# Altium footprint library Research.PcbLib: 103 footprints (part 5 of 7)
Each footprint in its own frame and in the unit in brackets; x right, y up, seen from the top. Pads: shape width x height; smd on the part's side, far side on the other; paste and mask are expansions set on the pad; w line width, h text height; cw(c..) or ccw(c..) is an arc to the next point about the centre after c.
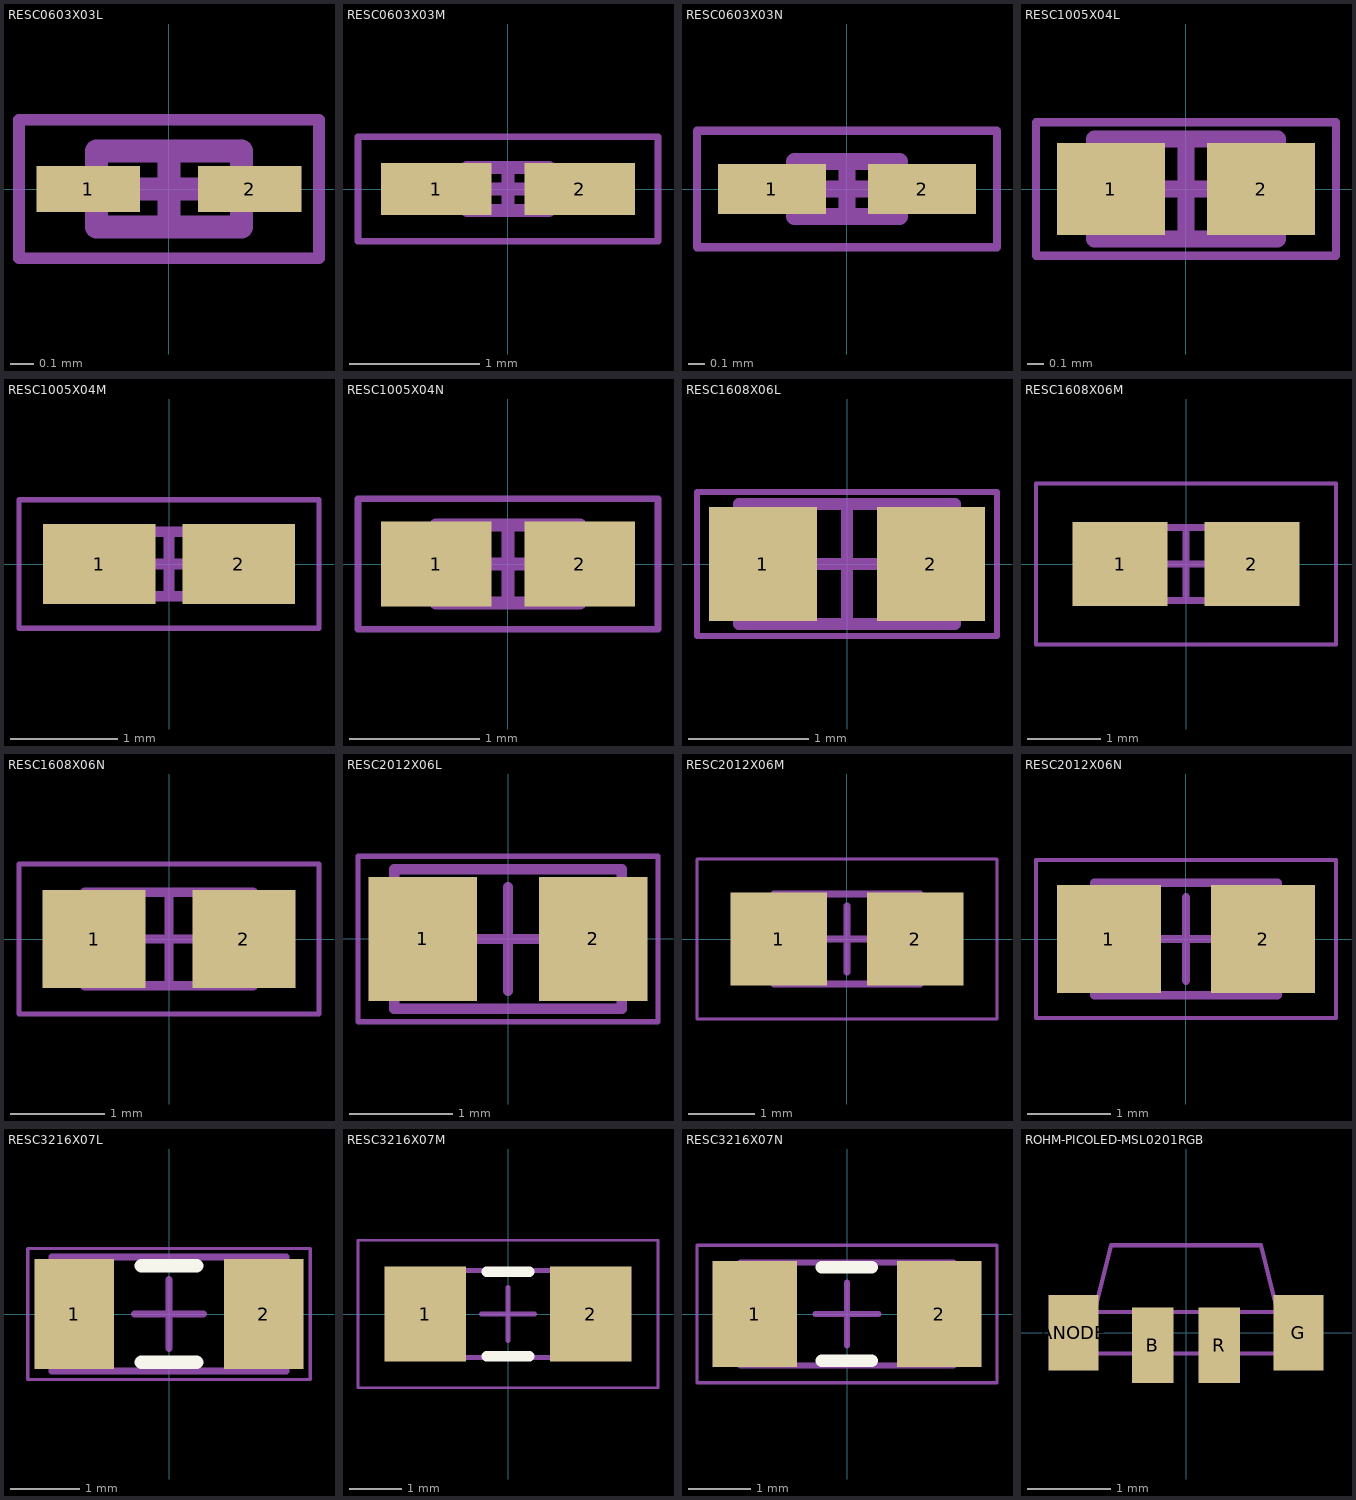
[diagram p4: the footprints below, top view; thin cyan lines are the x and y axes]

## RESC0603X03L [mm] "Chip Resistor, 2-Leads, Body 0.60x0.30mm, IPC High Density"
height 0.26
pads (2):
  rect 0.45x0.2 smd: 1(-0.35,0) 2(0.35,0)
Mechanical 13:
  lines w0.1: -0.315,-0.165 0.315,-0.165 0.315,0.165 -0.315,0.165 -0.315,-0.165
Mechanical 15:
  lines w0.05: -0.65,-0.3 0.65,-0.3 0.65,0.3 -0.65,0.3 -0.65,-0.3
  lines w0.1: -0.165,0 0.165,0 ; 0,-0.165 0,0.165
3D body: height 0.26, standoff 0, extent 0.165,-0.165 0.315,0.165
3D body: height 0.26, standoff 0, extent -0.315,-0.165 -0.165,0.165
3D body: height 0.26, standoff 0, extent -0.165,-0.165 0.165,0.165

## RESC0603X03M [mm] "Chip Resistor, 2-Leads, Body 0.60x0.30mm, IPC Low Density"
height 0.26
pads (2):
  rect 0.85x0.4 smd: 1(-0.55,0) 2(0.55,0)
Mechanical 13:
  lines w0.1: -0.315,-0.165 -0.315,0.165 0.315,0.165 0.315,-0.165 -0.315,-0.165
Mechanical 15:
  lines w0.05: -1.15,-0.4 -1.15,0.4 1.15,0.4 1.15,-0.4 -1.15,-0.4
  lines w0.1: -0.165,0 0.165,0 ; 0,-0.165 0,0.165
3D body: height 0.26, standoff 0, extent -0.165,-0.165 0.165,0.165
3D body: height 0.26, standoff 0, extent -0.315,-0.165 -0.165,0.165
3D body: height 0.26, standoff 0, extent 0.165,-0.165 0.315,0.165

## RESC0603X03N [mm] "Chip Resistor, 2-Leads, Body 0.60x0.30mm, IPC Medium Density"
height 0.26
pads (2):
  rect 0.65x0.3 smd: 1(-0.45,0) 2(0.45,0)
Mechanical 13:
  lines w0.1: -0.315,-0.165 0.315,-0.165 0.315,0.165 -0.315,0.165 -0.315,-0.165
Mechanical 15:
  lines w0.05: -0.9,-0.35 0.9,-0.35 0.9,0.35 -0.9,0.35 -0.9,-0.35
  lines w0.1: -0.165,0 0.165,0 ; 0,-0.165 0,0.165
3D body: height 0.26, standoff 0, extent 0.165,-0.165 0.315,0.165
3D body: height 0.26, standoff 0, extent -0.315,-0.165 -0.165,0.165
3D body: height 0.26, standoff 0, extent -0.165,-0.165 0.165,0.165

## RESC1005X04L [mm] "Chip Resistor, 2-Leads, Body 1.00x0.52mm, IPC High Density"
height 0.4
pads (2):
  rect 0.65x0.55 smd: 1(-0.45,0) 2(0.45,0)
Mechanical 13:
  lines w0.1: -0.55,-0.3 -0.55,0.3 0.55,0.3 0.55,-0.3 -0.55,-0.3
Mechanical 15:
  lines w0.05: -0.9,-0.4 -0.9,0.4 0.9,0.4 0.9,-0.4 -0.9,-0.4
  lines w0.1: -0.3,0 0.3,0 ; 0,-0.3 0,0.3
Mechanical 29:
  text ".Designator" at -0.4,-0.1 h0.2
3D body: height 0.4, standoff 0, extent -0.3,-0.3 0.3,0.3
3D body: height 0.4, standoff 0, extent -0.55,-0.3 -0.3,0.3
3D body: height 0.4, standoff 0, extent 0.3,-0.3 0.55,0.3

## RESC1005X04M [mm] "Chip Resistor, 2-Leads, Body 1.00x0.52mm, IPC Low Density"
height 0.4
pads (2):
  rect 1.05x0.75 smd: 1(-0.65,0) 2(0.65,0)
Mechanical 13:
  lines w0.1: -0.55,-0.3 -0.55,0.3 0.55,0.3 0.55,-0.3 -0.55,-0.3
Mechanical 15:
  lines w0.05: -1.4,-0.6 -1.4,0.6 1.4,0.6 1.4,-0.6 -1.4,-0.6
  lines w0.1: -0.3,0 0.3,0 ; 0,-0.3 0,0.3
Mechanical 29:
  text ".Designator" at -0.4,-0.1 h0.2
3D body: height 0.4, standoff 0, extent -0.3,-0.3 0.3,0.3
3D body: height 0.4, standoff 0, extent -0.55,-0.3 -0.3,0.3
3D body: height 0.4, standoff 0, extent 0.3,-0.3 0.55,0.3

## RESC1005X04N [mm] "Chip Resistor, 2-Leads, Body 1.00x0.52mm, IPC Medium Density"
height 0.4
pads (2):
  rect 0.85x0.65 smd: 1(-0.55,0) 2(0.55,0)
Mechanical 13:
  lines w0.1: -0.55,-0.3 0.55,-0.3 0.55,0.3 -0.55,0.3 -0.55,-0.3
Mechanical 15:
  lines w0.05: -1.15,-0.5 1.15,-0.5 1.15,0.5 -1.15,0.5 -1.15,-0.5
  lines w0.1: -0.3,0 0.3,0 ; 0,-0.3 0,0.3
Mechanical 29:
  text ".Designator" at -0.4,-0.1 h0.2
3D body: height 0.4, standoff 0, extent 0.3,-0.3 0.55,0.3
3D body: height 0.4, standoff 0, extent -0.55,-0.3 -0.3,0.3
3D body: height 0.4, standoff 0, extent -0.3,-0.3 0.3,0.3

## RESC1608X06L [mm] "Chip Resistor, 2-Leads, Body 1.60x0.80mm, IPC High Density"
height 0.55
pads (2):
  rect 0.9x0.95 smd: 1(-0.7,0) 2(0.7,0)
Mechanical 13:
  lines w0.1: -0.9,-0.5 -0.9,0.5 0.9,0.5 0.9,-0.5 -0.9,-0.5
Mechanical 15:
  lines w0.05: -1.25,-0.6 -1.25,0.6 1.25,0.6 1.25,-0.6 -1.25,-0.6
  lines w0.1: -0.5,0 0.5,0 ; 0,-0.5 0,0.5
Mechanical 29:
  text ".Comment" at -0.8,-0.4 h0.2
  text ".Designator" at -0.8,-0.1 h0.3
3D body: height 0.55, standoff 0, extent -0.6,-0.5 0.6,0.5
3D body: height 0.55, standoff 0, extent -0.9,-0.5 -0.6,0.5
3D body: height 0.55, standoff 0, extent 0.6,-0.5 0.9,0.5

## RESC1608X06M [mm] "Chip Resistor, 2-Leads, Body 1.60x0.80mm, IPC Low Density"
height 0.55
pads (2):
  rect 1.3x1.15 smd: 1(-0.9,0) 2(0.9,0)
Mechanical 13:
  lines w0.1: -0.9,-0.5 0.9,-0.5 0.9,0.5 -0.9,0.5 -0.9,-0.5
Mechanical 15:
  lines w0.05: -2.05,-1.1 2.05,-1.1 2.05,1.1 -2.05,1.1 -2.05,-1.1
  lines w0.1: -0.5,0 0.5,0 ; 0,-0.5 0,0.5
Mechanical 29:
  text ".Comment" at -0.8,-0.4 h0.2
  text ".Designator" at -0.8,-0.1 h0.3
3D body: height 0.55, standoff 0, extent 0.6,-0.5 0.9,0.5
3D body: height 0.55, standoff 0, extent -0.9,-0.5 -0.6,0.5
3D body: height 0.55, standoff 0, extent -0.6,-0.5 0.6,0.5

## RESC1608X06N [mm] "Chip Resistor, 2-Leads, Body 1.60x0.80mm, IPC Medium Density"
height 0.55
pads (2):
  rect 1.1x1.05 smd: 1(-0.8,0) 2(0.8,0)
Mechanical 13:
  lines w0.1: -0.9,-0.5 0.9,-0.5 0.9,0.5 -0.9,0.5 -0.9,-0.5
Mechanical 15:
  lines w0.05: -1.6,-0.8 1.6,-0.8 1.6,0.8 -1.6,0.8 -1.6,-0.8
  lines w0.1: -0.5,0 0.5,0 ; 0,-0.5 0,0.5
Mechanical 29:
  text ".Comment" at -0.8,-0.4 h0.2
  text ".Designator" at -0.8,-0.1 h0.3
3D body: height 0.55, standoff 0, extent 0.6,-0.5 0.9,0.5
3D body: height 0.55, standoff 0, extent -0.9,-0.5 -0.6,0.5
3D body: height 0.55, standoff 0, extent -0.6,-0.5 0.6,0.5

## RESC2012X06L [mm] "Chip Resistor, 2-Leads, Body 2.00x1.25mm, IPC High Density"
height 0.6
pads (2):
  rect 1.05x1.2 smd: 1(-0.825,0) 2(0.825,0)
Mechanical 13:
  lines w0.1: -1.1,-0.675 -1.1,0.675 1.1,0.675 1.1,-0.675 -1.1,-0.675
Mechanical 15:
  lines w0.05: -1.45,-0.8 -1.45,0.8 1.45,0.8 1.45,-0.8 -1.45,-0.8
  lines w0.1: -0.5,0 0.5,0 ; 0,-0.5 0,0.5
Mechanical 29:
  text ".Designator" at -0.9,-0.3 h0.5
3D body: height 0.6, standoff 0, extent -0.7,-0.675 0.7,0.675
3D body: height 0.6, standoff 0, extent -1.1,-0.675 -0.7,0.675
3D body: height 0.6, standoff 0, extent 0.7,-0.675 1.1,0.675

## RESC2012X06M [mm] "Chip Resistor, 2-Leads, Body 2.00x1.25mm, IPC Low Density"
height 0.6
pads (2):
  rect 1.45x1.4 smd: 1(-1.025,0) 2(1.025,0)
Mechanical 13:
  lines w0.1: -1.1,-0.675 -1.1,0.675 1.1,0.675 1.1,-0.675 -1.1,-0.675
Mechanical 15:
  lines w0.05: -2.25,-1.2 -2.25,1.2 2.25,1.2 2.25,-1.2 -2.25,-1.2
  lines w0.1: -0.5,0 0.5,0 ; 0,-0.5 0,0.5
Mechanical 29:
  text ".Designator" at -0.9,-0.3 h0.5
3D body: height 0.6, standoff 0, extent -0.7,-0.675 0.7,0.675
3D body: height 0.6, standoff 0, extent -1.1,-0.675 -0.7,0.675
3D body: height 0.6, standoff 0, extent 0.7,-0.675 1.1,0.675

## RESC2012X06N [mm] "Chip Resistor, 2-Leads, Body 2.00x1.25mm, IPC Medium Density"
height 0.6
pads (2):
  rect 1.25x1.3 smd: 1(-0.925,0) 2(0.925,0)
Mechanical 13:
  lines w0.1: -1.1,-0.675 1.1,-0.675 1.1,0.675 -1.1,0.675 -1.1,-0.675
Mechanical 15:
  lines w0.05: -1.8,-0.95 1.8,-0.95 1.8,0.95 -1.8,0.95 -1.8,-0.95
  lines w0.1: -0.5,0 0.5,0 ; 0,-0.5 0,0.5
Mechanical 29:
  text ".Designator" at -0.9,-0.3 h0.5
3D body: height 0.6, standoff 0, extent 0.7,-0.675 1.1,0.675
3D body: height 0.6, standoff 0, extent -1.1,-0.675 -0.7,0.675
3D body: height 0.6, standoff 0, extent -0.7,-0.675 0.7,0.675

## RESC3216X07L [mm] "Chip Resistor, 2-Leads, Body 3.20x1.55mm, IPC High Density"
height 0.7
pads (2):
  rect 1.15x1.6 smd: 1(-1.375,0) 2(1.375,0)
Top Overlay:
  lines w0.2: -0.4,-0.7 0.4,-0.7 ; -0.4,0.7 0.4,0.7
Mechanical 13:
  lines w0.1: -1.7,-0.825 1.7,-0.825 1.7,0.825 -1.7,0.825 -1.7,-0.825
Mechanical 15:
  lines w0.05: -2.05,-0.95 2.05,-0.95 2.05,0.95 -2.05,0.95 -2.05,-0.95
  lines w0.1: -0.5,0 0.5,0 ; 0,-0.5 0,0.5
3D body: height 0.7, standoff 0, extent 1.2,-0.825 1.7,0.825
3D body: height 0.7, standoff 0, extent -1.7,-0.825 -1.2,0.825
3D body: height 0.7, standoff 0, extent -1.2,-0.825 1.2,0.825

## RESC3216X07M [mm] "Chip Resistor, 2-Leads, Body 3.20x1.55mm, IPC Low Density"
height 0.7
pads (2):
  rect 1.55x1.8 smd: 1(-1.575,0) 2(1.575,0)
Top Overlay:
  lines w0.2: -0.4,-0.8 0.4,-0.8 ; -0.4,0.8 0.4,0.8
Mechanical 13:
  lines w0.1: -1.7,-0.825 1.7,-0.825 1.7,0.825 -1.7,0.825 -1.7,-0.825
Mechanical 15:
  lines w0.05: -2.85,-1.4 2.85,-1.4 2.85,1.4 -2.85,1.4 -2.85,-1.4
  lines w0.1: -0.5,0 0.5,0 ; 0,-0.5 0,0.5
3D body: height 0.7, standoff 0, extent 1.2,-0.825 1.7,0.825
3D body: height 0.7, standoff 0, extent -1.7,-0.825 -1.2,0.825
3D body: height 0.7, standoff 0, extent -1.2,-0.825 1.2,0.825

## RESC3216X07N [mm] "Chip Resistor, 2-Leads, Body 3.20x1.55mm, IPC Medium Density"
height 0.7
pads (2):
  rect 1.35x1.7 smd: 1(-1.475,0) 2(1.475,0)
Top Overlay:
  lines w0.2: -0.4,-0.75 0.4,-0.75 ; -0.4,0.75 0.4,0.75
Mechanical 13:
  lines w0.1: -1.7,-0.825 -1.7,0.825 1.7,0.825 1.7,-0.825 -1.7,-0.825
Mechanical 15:
  lines w0.05: -2.4,-1.1 -2.4,1.1 2.4,1.1 2.4,-1.1 -2.4,-1.1
  lines w0.1: -0.5,0 0.5,0 ; 0,-0.5 0,0.5
3D body: height 0.7, standoff 0, extent -1.2,-0.825 1.2,0.825
3D body: height 0.7, standoff 0, extent -1.7,-0.825 -1.2,0.825
3D body: height 0.7, standoff 0, extent 1.2,-0.825 1.7,0.825

## ROHM-PICOLED-MSL0201RGB [mm] "Small and Thin Side View Package RGB LED"
height 0.43
pads (4):
  rect 0.6x0.9 smd: ANODE(-1.35,0) G(1.35,0)
  rect 0.5x0.9 smd: B(-0.4,-0.15) R(0.4,-0.15)
Mechanical 13:
  lines w0.05: -1.1,0.25 -0.9,1.05 0.9,1.05 1.1,0.25 ; -1.525,-0.25 1.525,-0.25 1.525,0.25 -1.525,0.25 -1.525,-0.25
Mechanical 29:
  text ".Designator" at -0.9,0.4 h0.4
3D body: height 0.3, standoff 0.1, extent -0.8,0.2 -0.4,0.4
3D body: height 0.3, standoff 0.1, extent 0.4,0.2 0.8,0.4
3D body: height 0.3, standoff 0.1, extent -0.2,0.2 0.2,0.4
3D body: height 0.41, standoff 0.01, extent -1.2,-0.15 1.2,1.05
3D body: height 0.43, standoff 0, extent -1.525,-0.25 1.525,0.25